# Altium schematic symbol library HTL-sym-2021_04.schlib: 59 symbols
Pins are listed as number, name and electrical type; pins without a type are passive.

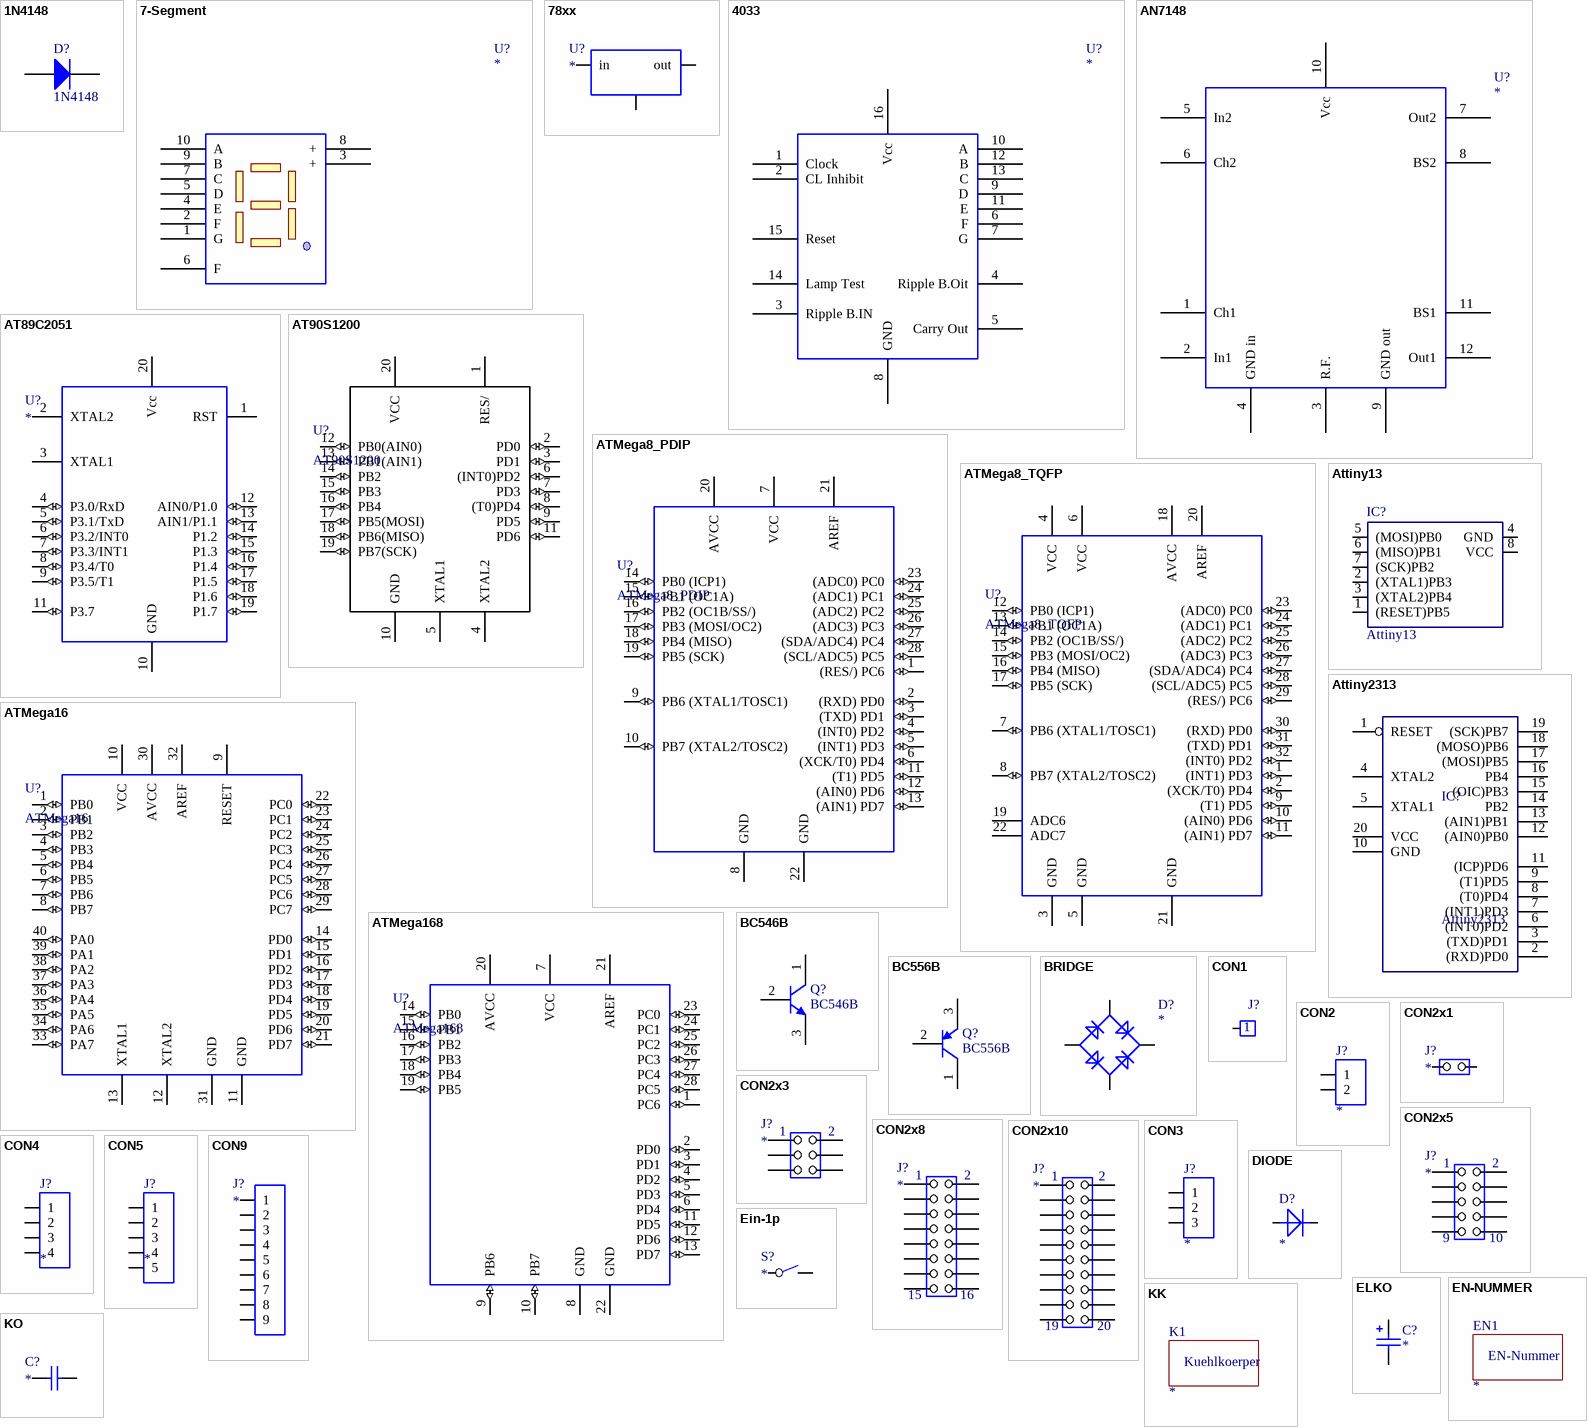
[diagram p0: symbols 1N4148 to KO]

## 1N4148
designator D?
High Conductance Fast Diode; Published: 8-Jun-2000; LatestRevisionDate: 17-Jul-2002; LatestRevisionNote: Re-released for DXP Platform.; DatasheetDocument: 1997; PackageReference: DO-35; Publisher: Altium Limited; Code_JEDEC: DO-204-AH; ComponentLink1Description: Manufacturer Link; ComponentLink1URL: http://www.fairchildsemi.com/; ComponentLink2Description: Datasheet; ComponentLink2URL: http://www.fairchildsemi.com/ds/1N%2F1N4148.pdf
footprint DO-35 (Diode, Axial; Body 3.8 x 1.9 mm (LxDia. max), Lead Dia. 0.53 mm (max))
simulation model 1N4148 (DIODE)
signal-integrity model 1N4148
footprint DIODE-0.4
pins: 1 A, 2 K

## 7-Segment
designator U?
IC
footprint 7-Segment
pins: 1 G, 2 F, 3 +, 4 E, 5 D, 6 F, 7 C, 8 +, 9 B, 10 A

## 78xx
designator U?
IC
footprint TO-92/BCE
footprint TO-220H
footprint TO-220V
pins: 1 in, 2 out, 3

## 4033
designator U?
IC
footprint DIP-16
footprint SO-16
pins: 1 Clock, 2 CL Inhibit, 3 Ripple B.IN, 4 Ripple B.Oit, 5 Carry Out, 6 F, 7 G, 8 GND, 9 D, 10 A, 11 E, 12 B, 13 C, 14 Lamp Test, 15 Reset, 16 Vcc

## AN7148
designator U?
IC
footprint AN7148
pins: 1 Ch1, 2 In1, 3 R.F., 4 GND in, 5 In2, 6 Ch2, 7 Out2, 8 BS2, 9 GND out, 10 Vcc, 11 BS1, 12 Out1

## AT89C2051
designator U?
µC
footprint DIP-20
pins: 1 RST, 2 XTAL2, 3 XTAL1, 4 P3.0/RxD (io), 5 P3.1/TxD (io), 6 P3.2/INT0 (io), 7 P3.3/INT1 (io), 8 P3.4/T0 (io), 9 P3.5/T1 (io), 10 GND (power), 11 P3.7 (io), 12 AIN0/P1.0 (io), 13 AIN1/P1.1 (io), 14 P1.2 (io), 15 P1.3 (io), 16 P1.4 (io), 17 P1.5 (io), 18 P1.6 (io), 19 P1.7 (io), 20 Vcc (power)

## AT90S1200
designator U?
µC
footprint DIP-20
pins: 1 RES/, 2 PD0 (io), 3 PD1 (io), 4 XTAL2, 5 XTAL1, 6 (INT0)PD2 (io), 7 PD3 (io), 8 (T0)PD4 (io), 9 PD5 (io), 10 GND, 11 PD6 (io), 12 PB0(AIN0) (io), 13 PB1(AIN1) (io), 14 PB2 (io), 15 PB3 (io), 16 PB4 (io), 17 PB5(MOSI) (io), 18 PB6(MISO) (io), 19 PB7(SCK) (io), 20 VCC

## ATMega8_PDIP
designator U?
µC
footprint SDIP-28
pins: 1 (RES/) PC6 (io), 2 (RXD) PD0 (io), 3 (TXD) PD1 (io), 4 (INT0) PD2 (io), 5 (INT1) PD3 (io), 6 (XCK/T0) PD4 (io), 7 VCC, 8 GND, 9 PB6 (XTAL1/TOSC1) (io), 10 PB7 (XTAL2/TOSC2) (io), 11 (T1) PD5 (io), 12 (AIN0) PD6 (io), 13 (AIN1) PD7 (io), 14 PB0 (ICP1) (io), 15 PB1 (OC1A) (io), 16 PB2 (OC1B/SS/) (io), 17 PB3 (MOSI/OC2) (io), 18 PB4 (MISO) (io), 19 PB5 (SCK) (io), 20 AVCC, 21 AREF, 22 GND, 23 (ADC0) PC0 (io), 24 (ADC1) PC1 (io), 25 (ADC2) PC2 (io), 26 (ADC3) PC3 (io), 27 (SDA/ADC4) PC4 (io), 28 (SCL/ADC5) PC5 (io)

## ATMega8_TQFP
designator U?
µC
footprint TQFP-32
pins: 1 (INT1) PD3 (io), 2 (XCK/T0) PD4 (io), 3 GND, 4 VCC, 5 GND, 6 VCC, 7 PB6 (XTAL1/TOSC1) (io), 8 PB7 (XTAL2/TOSC2) (io), 9 (T1) PD5 (io), 10 (AIN0) PD6 (io), 11 (AIN1) PD7 (io), 12 PB0 (ICP1) (io), 13 PB1 (OC1A) (io), 14 PB2 (OC1B/SS/) (io), 15 PB3 (MOSI/OC2) (io), 16 PB4 (MISO) (io), 17 PB5 (SCK) (io), 18 AVCC, 19 ADC6, 20 AREF, 21 GND, 22 ADC7, 23 (ADC0) PC0 (io), 24 (ADC1) PC1 (io), 25 (ADC2) PC2 (io), 26 (ADC3) PC3 (io), 27 (SDA/ADC4) PC4 (io), 28 (SCL/ADC5) PC5 (io), 29 (RES/) PC6 (io), 30 (RXD) PD0 (io), 31 (TXD) PD1 (io), 32 (INT0) PD2 (io)

## ATMega16
designator U?
µC
footprint DIP-40
pins: 1 PB0 (io), 2 PB1 (io), 3 PB2 (io), 4 PB3 (io), 5 PB4 (io), 6 PB5 (io), 7 PB6 (io), 8 PB7 (io), 9 RESET, 10 VCC, 11 GND, 12 XTAL2, 13 XTAL1, 14 PD0 (io), 15 PD1 (io), 16 PD2 (io), 17 PD3 (io), 18 PD4 (io), 19 PD5 (io), 20 PD6 (io), 21 PD7 (io), 22 PC0 (io), 23 PC1 (io), 24 PC2 (io), 25 PC3 (io), 26 PC4 (io), 27 PC5 (io), 28 PC6 (io), 29 PC7 (io), 30 AVCC, 31 GND, 32 AREF, 33 PA7 (io), 34 PA6 (io), 35 PA5 (io), 36 PA4 (io), 37 PA3 (io), 38 PA2 (io), 39 PA1 (io), 40 PA0 (io)

## ATMega168
designator U?
µC
footprint SDIP-28
pins: 1 PC6 (io), 2 PD0 (io), 3 PD1 (io), 4 PD2 (io), 5 PD3 (io), 6 PD4 (io), 7 VCC, 8 GND, 9 PB6 (io), 10 PB7 (io), 11 PD5 (io), 12 PD6 (io), 13 PD7 (io), 14 PB0 (io), 15 PB1 (io), 16 PB2 (io), 17 PB3 (io), 18 PB4 (io), 19 PB5 (io), 20 AVCC, 21 AREF, 22 GND, 23 PC0 (io), 24 PC1 (io), 25 PC2 (io), 26 PC3 (io), 27 PC4 (io), 28 PC5 (io)

## Attiny13
designator IC?
footprint DIP-8
pins: 1 (RESET)PB5, 2 (XTAL1)PB3, 3 (XTAL2)PB4, 4 GND, 5 (MOSI)PB0, 6 (MISO)PB1, 7 (SCK)PB2, 8 VCC

## Attiny2313
designator IC?
footprint DIP-20
footprint SO-20
pins: 1 RESET, 2 (RXD)PD0, 3 (TXD)PD1, 4 XTAL2, 5 XTAL1, 6 (INT0)PD2, 7 (INT1)PD3, 8 (T0)PD4, 9 (T1)PD5, 10 GND, 11 (ICP)PD6, 12 (AIN0)PB0, 13 (AIN1)PB1, 14 PB2, 15 (OIC)PB3, 16 PB4, 17 (MOSI)PB5, 18 (MOSO)PB6, 19 (SCK)PB7, 20 VCC

## BC546B
designator Q?
Amplifier Transistor NPN Silicon; Published: 29-Sep-2000; LatestRevisionDate: 17-Jul-2002; LatestRevisionNote: Re-released for DXP Platform.; DatasheetVersion: 1991; PackageVersion: 1996; PackageReference: 29-04; Publisher: Altium Limited; PackageDescription: TO, Flat Index; 3 In-Line, Axial Leads; Body Dia. 4.8mm; Leads 0.48 x 0.5 mm (max); ComponentLink1Description: Manufacturer Link; ComponentLink1URL: http://www.onsemi.com/site/products/landing?taxonomyID=194; ComponentLink2Description: Datasheet; ComponentLink2URL: http://www.onsemi.com/pub/Collateral/BC546-D.PDF
simulation model BC546B (NPN)
signal-integrity model BC546B
footprint TO-92/EBC (Standard-Transistor wie BC546); pin to pad 1>3 2>1 3>2
pins: 1 C, 2 B, 3 E

## BC556B
designator Q?
Amplifier Transistor PNP Silicon; Published: 29-Sep-2000; LatestRevisionDate: 17-Jul-2002; LatestRevisionNote: Re-released for DXP Platform.; DatasheetVersion: 1991; PackageVersion: 1996; PackageReference: 29-04; Publisher: Altium Limited; PackageDescription: TO, Flat Index; 3 In-Line, Axial Leads; Body Dia. 4.8mm; Leads 0.48 x 0.5 mm (max); ComponentLink1Description: Manufacturer Link; ComponentLink1URL: http://www.onsemi.com/site/products/landing?taxonomyID=194; ComponentLink2Description: Datasheet; ComponentLink2URL: http://www.onsemi.com/pub/Collateral/BC556B-D.PDF
simulation model QBC556B (PNP)
signal-integrity model BC556B
footprint TO-92/EBC (Standard-Transistor wie BC546); pin to pad 1>3 2>1 3>2
pins: 1 C, 2 B, 3 E

## BRIDGE
designator D?
Dioden Brücke
footprint KBLXX
footprint KBPXX
pins: 1 V-, 2 AC, 3 V+, 4 AC

## CON1
designator J?  (value not drawn)
Stecker
footprint Pin1
pins: 1

## CON2
designator J?
Stecker
footprint SIP-2
footprint KL-2
footprint POWER-2
pins: 1, 2

## CON2x1
designator J?
Stecker
footprint PFOSTEN_2x1
simulation model Model Name (Model Description)
pins: 1, 2

## CON2x3
designator J?
Stecker
footprint PFOSTEN_2x3
pins: 1, 2, 3, 4, 5, 6

## CON2x5
designator J?
Stecker
footprint PFOSTEN_2x5H
footprint PFOSTEN_2x5V
pins: 1, 2, 3, 4, 5, 6, 7, 8, 9, 10

## CON2x8
designator J?
Stecker
footprint PFOSTEN_2x8
pins: 1, 2, 3, 4, 5, 6, 7, 8, 9, 10, 11, 12, 13, 14, 15, 16

## CON2x10
designator J?
Stecker
footprint PFOSTEN_2x10
pins: 1, 2, 3, 4, 5, 6, 7, 8, 9, 10, 11, 12, 13, 14, 15, 16, 17, 18, 19, 20

## CON3
designator J?
Stecker
footprint Sip-3
footprint KL-3
pins: 1, 2, 3

## CON4
designator J?
Stecker
footprint USB_TYPB
pins: 1, 2, 3, 4

## CON5
designator J?
Stecker
footprint Sip-5print
pins: 1, 2, 3, 4, 5

## CON9
designator J?
Stecker
footprint SIP-9
footprint DB9SL
pins: 1, 2, 3, 4, 5, 6, 7, 8, 9

## DIODE
designator D?
Diode
footprint Diode-0.4
footprint Diode-0.5
footprint DIODE-0.4/085
footprint DIODE-0.6
pins: 1 A, 2 K

## Ein-1p
designator S?
Schalter
footprint Sch 1U
pins: 1 W, 2 S

## ELKO
designator C?
Elko
footprint RB-.1/.2
footprint RB-.1/.3
footprint RB-.2/.4
footprint RB-.3/.6
simulation model Model Name (Model Description)
pins: 1, 2

## EN-NUMMER
designator EN1  (graphical)
Platzhalter
footprint EN-NUMMER-Bot
footprint EN-NUMMERN-RAHMEN - duplicate
text: EN-Nummer

## KK
designator K1  (mechanical)
Kühlkörper
footprint KK
text: Kuehlkoerper

## KO
designator C?
Kondensator
footprint rad-7.2/2.5/5
footprint RAD-7.2/3.5/5
footprint 0603
footprint 0805
footprint 1206
simulation model Model Name (Model Description)
pins: 1, 2

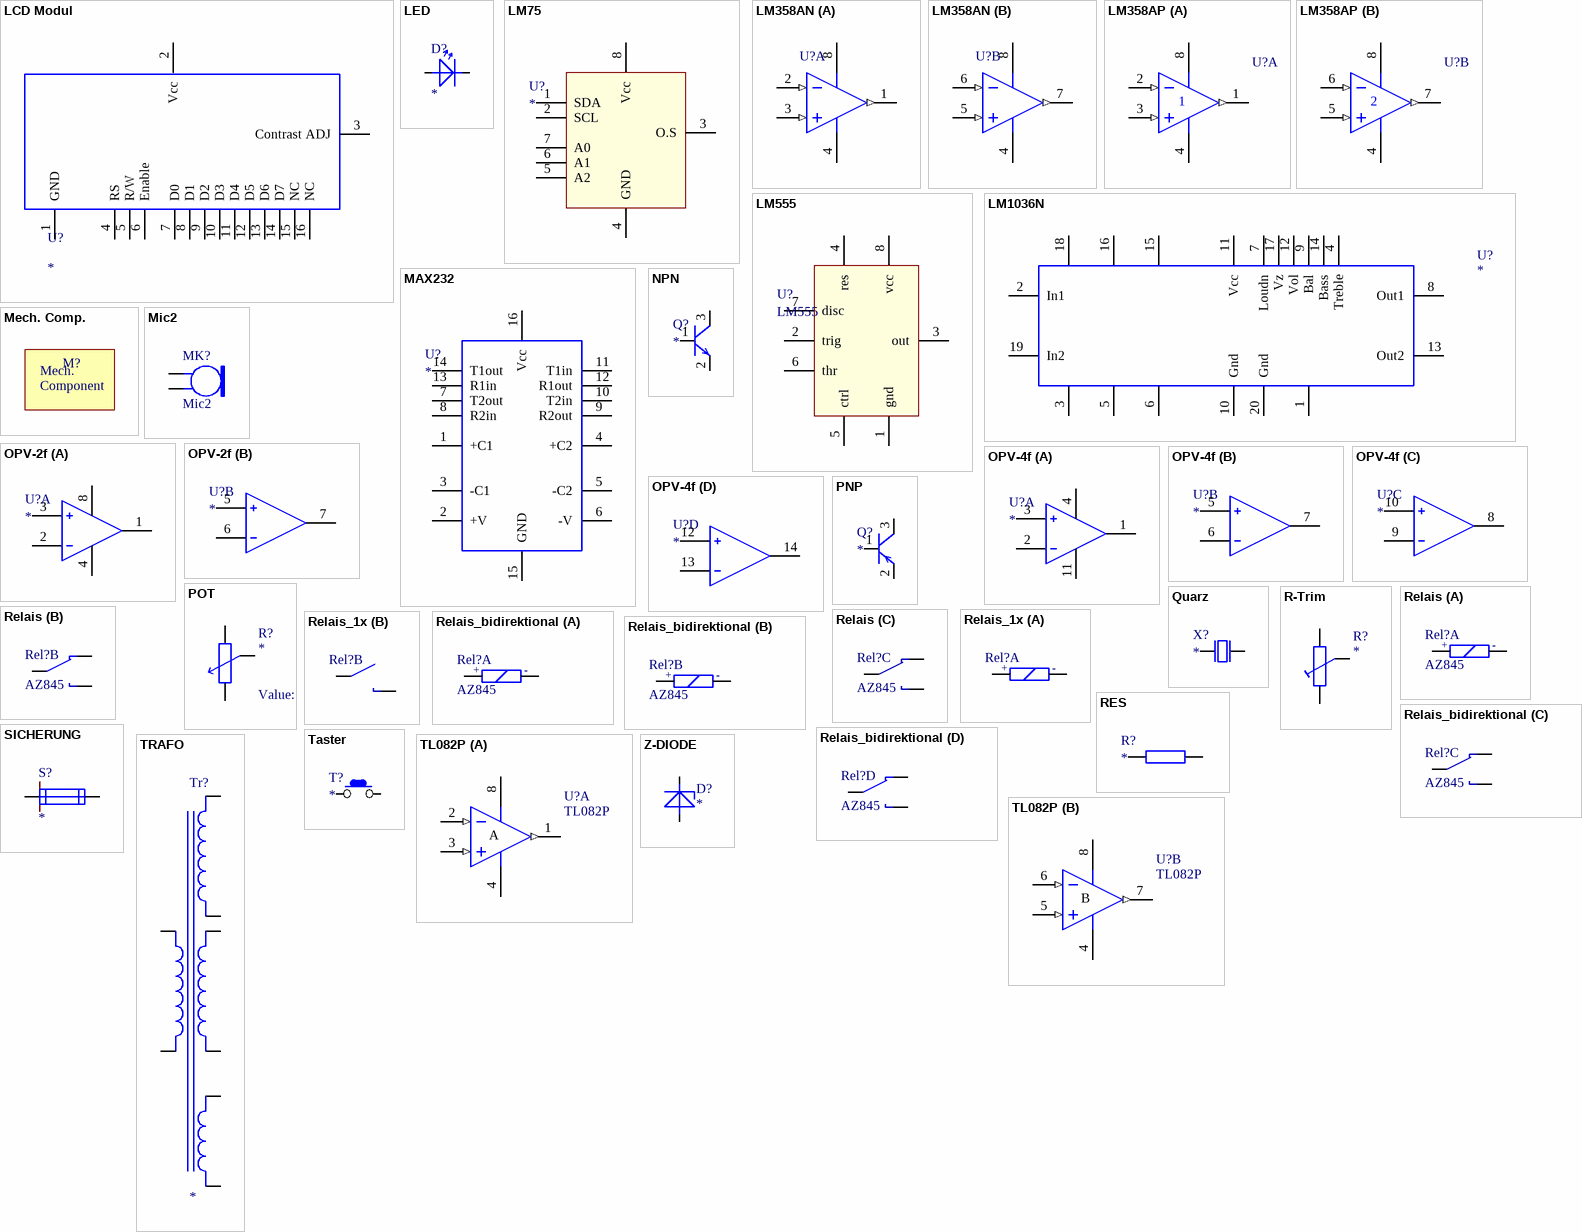
[diagram p1: symbols LCD Modul to Z-DIODE]

## LCD Modul
designator U?
footprint WM-C1610M
pins: 1 GND, 2 Vcc, 3 Contrast ADJ, 4 RS, 5 R/W, 6 Enable, 7 D0, 8 D1, 9 D2, 10 D3, 11 D4, 12 D5, 13 D6, 14 D7, 15 NC, 16 NC

## LED
designator D?
Diode
footprint LED-3
footprint LED-5
pins: 1 A, 2 K

## LM75
designator U?
IC
footprint SO-8
pins: 1 SDA, 2 SCL, 3 O.S, 4 GND, 5 A2, 6 A1, 7 A0, 8 Vcc

## LM358AN
designator U?
Low Power Dual Operational Amplifier, 8-pin MDIP; PartNumber: LM358AN; Manufacturer: National Semiconductor; PackageTopMarking: NSUZXYTTE#*LM*358AN; PowerWise: N; CompType: Amplifiers; Published: 4-Dec-2008; LatestRevisionDate: 13-Jan-2009; LatestRevisionNote: Sim Model Added.; DatasheetVersion: Oct-2005; PackageVersion: revG, May-2006; PackageReference: N08E; Publisher: Altium Limited; PackageDescription: MDIP, .365 x .250 x .130in, 8 Lead, .100in Pitch; Supplier 1: Farnell; Supplier Part Number 1: 9486810; RoHS: N; PinCount: 8; Code_JEDEC: MS-001-BA; ComponentLink1Description: LM358 Datasheet; ComponentLink1URL: http://www.national.com/ds/LM/LM358.pdf; ComponentLink2Description: LM358 Web Page; ComponentLink2URL: http://www.national.com/pf/LM/LM358.html; ComponentLink3Description: N08E Package Page; ComponentLink3URL: http://www.national.com/packaging/folders/n08e.html
simulation model LM358 (SUBCKT)
footprint DIP-8
pins on every part: 4 GND (power), 8 V+ (power)
part A pins: 1 OUTA (out), 2 INA- (in), 3 INA+ (in)
part B pins: 5 INB+ (in), 6 INB- (in), 7 OUTB (out)

## LM358AP
designator U?
Dual Operational Amplifier; Published: 15-Apr-2002; LatestRevisionDate: 04-Mar-2005; LatestRevisionNote: Stylized 3D Model Added.; DatasheetVersion: Aug-1988; PackageVersion: Jun-1999; PackageReference: P008; Publisher: Altium Limited; PackageDescription: DIP; 8 Leads; Row Spacing 7.62 mm; Pitch 2.54 mm; Code_JEDEC: MO-001-AN; ComponentLink1Description: Manufacturer Link; ComponentLink1URL: http://www.ti.com/; ComponentLink2Description: Datasheet; ComponentLink2URL: http://www-s.ti.com/sc/ds/lm358.pdf
footprint P008 (DIP; 8 Leads; Row Spacing 7.62 mm; Pitch 2.54 mm)
3D model P008 (DIP; 8 Leads; Row Spacing 7.62 mm; Pitch 2.54 mm)
pins on every part: 4 V- (power), 8 V+ (power)
part A pins: 1 OUT (out), 2 IN- (in), 3 IN+ (in)
part B pins: 5 IN+ (in), 6 IN- (in), 7 OUT (out)

## LM555
designator U?
footprint DIP-8
footprint SO-8
pins: 1 gnd, 2 trig, 3 out, 4 res, 5 ctrl, 6 thr, 7 disc, 8 vcc

## LM1036N
designator U?
IC
footprint DIP-20
pins: 1, 2 In1, 3, 4 Treble, 5, 6, 7 Loudn, 8 Out1, 9 Bal, 10 Gnd, 11 Vcc, 12 Vol, 13 Out2, 14 Bass, 15, 16, 17 Vz, 18, 19 In2, 20 Gnd

## MAX232
designator U?
IC
footprint DIP-16
pins: 1 +C1, 2 +V, 3 -C1, 4 +C2, 5 -C2, 6 -V, 7 T2out, 8 R2in, 9 R2out, 10 T2in, 11 T1in, 12 R1out, 13 R1in, 14 T1out, 15 GND, 16 Vcc

## Mech. Comp.
designator M?  (value not drawn)  (mechanical)
text: Mech.; Component

## Mic2
designator MK?
Microphone; Published: 24-Mar-1999; LatestRevisionDate: 17-Jul-2002; LatestRevisionNote: Re-released for DXP Platform.; PackageReference: PIN2; Publisher: Altium Limited
footprint PIN2 (Microphone; 2 Leads)
footprint MicroElektret
simulation model Model Name (Model Description)
pins: 1, 2

## NPN
designator Q?
Transistor
footprint TO-92/EBC
footprint TO-220V
footprint TO-220H
pins: 1 B, 2 E, 3 C

## OPV-2f
designator U?
IC
footprint DIP-8
part A pins: 1 out, 2 I, 3 NI, 4 Vee, 8 Vcc
part B pins: 5 NI, 6 I, 7 out

## OPV-4f
designator U?
IC
footprint DIP-14
part A pins: 1 out, 2 I, 3 NI, 4 Vcc, 11 Vee
part B pins: 5 NI, 6 I, 7 out
part C pins: 8 out, 9 I, 10 NI
part D pins: 12 NI, 13 I, 14 out

## PNP
designator Q?
Transistor
footprint TO-92/EBC
footprint TO-220V
footprint TO-220H
pins: 1 B, 2 E, 3 C

## POT
designator R?  value 1k
Potentiometer; Set Position: 0.5
footprint PT15
footprint TP-.2/.4
footprint ALPS_V
simulation model Model Name (Model Description)
pins: 1, 2, 3

## Quarz
designator X?
Quarz
footprint Quarz
pins: 1, 2

## R-Trim
designator R?
Potentiometer
footprint TP-.2/.4
pins: 1, 2, 3

## Relais
designator Rel?, comment AZ845
footprint DIP-10
footprint Relais (K?)
part A pins: 1 +, 10 -
part B pins: 2, 3, 4
part C pins: 7, 8, 9

## Relais_1x
designator Rel?
footprint Relais (K?)
part A pins: 1 +, 2 -
part B pins: 3, 4

## Relais_bidirektional
designator Rel?, comment AZ845
footprint AZ830P2
part A pins: 1 -, 16 +
part B pins: 2 -, 15 +
part C pins: 4, 6, 8
part D pins: 9, 11, 13

## RES
designator R?
Widerstand
footprint Axial-0.4
footprint Axial-0.7
footprint 0603
footprint 0805
footprint 1206
simulation model Model Name (Model Description)
pins: 1, 2

## SICHERUNG
designator S?
Sicherung; Text Field1: Strom
footprint SICHERUNG
pins: 1, 2

## Taster
designator T?
Taster
footprint Tast
footprint Taster 20mm
pins: 1, 2

## TL082P
designator U?
JFET-Input Operational Amplifier; Published: 16-Jan-2001; LatestRevisionDate: 04-Mar-2005; LatestRevisionNote: Stylized 3D Model Added.; DatasheetVersion: Feb-1999; PackageVersion: Jun-1999; PackageReference: P008; Publisher: Altium Limited; PackageDescription: DIP; 8 Leads; Row Spacing 7.62 mm; Pitch 2.54 mm; Code_JEDEC: MO-001-AN; ComponentLink1Description: Manufacturer Link; ComponentLink1URL: http://www.ti.com/; ComponentLink2Description: Datasheet; ComponentLink2URL: http://www-s.ti.com/sc/ds/tl082.pdf
3D model P008 (DIP; 8 Leads; Row Spacing 7.62 mm; Pitch 2.54 mm)
simulation model TL082 (SUBCKT)
footprint DIP-8
pins on every part: 4 V- (power), 8 V+ (power)
part A pins: 1 OUT (out), 2 IN- (in), 3 IN+ (in)
part B pins: 5 IN+ (in), 6 IN- (in), 7 OUT (out)
part A text: A
part B text: B

## TRAFO
designator Tr?
Trafo; Text Field1: Sec1; Text Field2: Sec2; Text Field3: Sec3; Sec1: *; Sec2: *; Sec3: *
footprint EI66
pins: 2 230V, 7 230V, 9 16V, 10 16V, 12 16V, 13 16V, 15 8V, 16 8V

## Z-DIODE
designator D?
Z-Diode
footprint DIODE-0.4
footprint SOD-80
pins: 1 A, 2 K